# EAGLE library part HC027 (library Picoradio1V1)
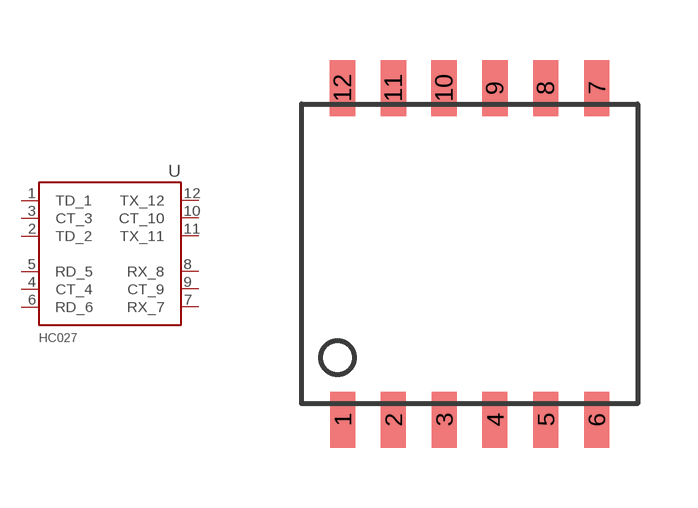
[diagram p10: symbol with the pads of HC027; footprint HC027]

Designator prefix U

## HC027 (P1I: o)  [HC027]
1  TD_1
2  TD_2
3  CT_3
4  CT_4
5  RD_5
6  RD_6
7  RX_7
8  RX_8
9  CT_9
10  CT_10
11  TX_11
12  TX_12

## Footprint HC027 (pad centres in mm)
smd 0.625 x 1.4: 1 -3.175,-4.15; 2 -1.905,-4.15; 3 -0.635,-4.15; 4 0.635,-4.15; 5 1.905,-4.15; 6 3.175,-4.15; 7 3.175,4.15
smd 0.635 x 1.4: 8 1.905,4.15; 9 0.635,4.15; 10 -0.635,4.15; 11 -1.905,4.15; 12 -3.175,4.15